# EAGLE library part FINDER-DPDT-12V (library Alex-Relay)
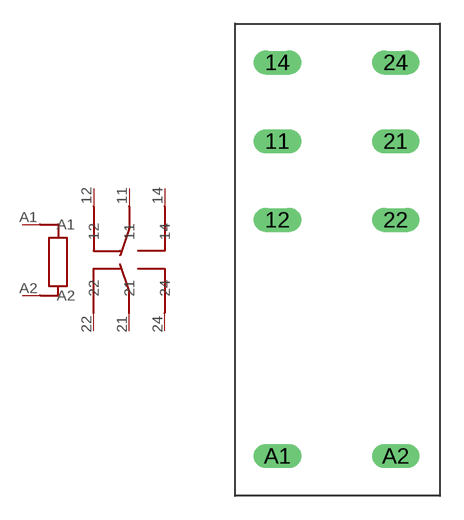
[diagram p0: symbol with the pads of FINDER-DPDT-12V; footprint FINDER-DPDT-12V]

Designator prefix RLS

## FINDER-DPDT-12VFINDER-DPDT-12V  [FINDER-DPDT-12V]
11  11
12  12
14  14
21  21
22  22
24  24
A1  A1
A2  A2

## Footprint FINDER-DPDT-12V (pad centres in mm)
drill 1 long: 11 -3.81,6.03; 12 -3.81,1.03; 14 -3.81,11.03; 21 3.69,6.03; 22 3.69,1.03; 24 3.69,11.03; A1 -3.81,-13.97; A2 3.69,-13.97